# Altium schematic symbol library ROM.SchLib: 3 symbols
Pins are listed as number, name and electrical type; pins without a type are passive.

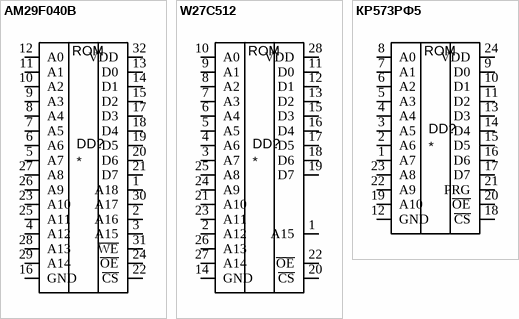
[diagram p0: symbols AM29F040B to КР573РФ5]

## AM29F040B
designator DD?
footprint DIP254P1524X482-32
pins: 1 A18, 2 A16, 3 A15, 4 A12, 5 A7, 6 A6, 7 A5, 8 A4, 9 A3, 10 A2, 11 A1, 12 A0, 13 D0, 14 D1, 15 D2, 16 GND, 17 D3, 18 D4, 19 D5, 20 D6, 21 D7, 22 ~{CS}, 23 A10, 24 ~{OE}, 25 A11, 26 A9, 27 A8, 28 A13, 29 A14, 30 A17, 31 ~{WE}, 32 VDD
text: ROM

## W27C512
designator DD?
footprint DIP28insocket
pins: 1 A15, 2 A12, 3 A7, 4 A6, 5 A5, 6 A4, 7 A3, 8 A2, 9 A1, 10 A0, 11 D0, 12 D1, 13 D2, 14 GND, 15 D3, 16 D4, 17 D5, 18 D6, 19 D7, 20 ~{CS}, 21 A10, 22 ~{OE}, 23 A11, 24 A9, 25 A8, 26 A13, 27 A14, 28 VDD
text: ROM

## КР573РФ5
designator DD?
footprint DIP24
pins: 1 A7, 2 A6, 3 A5, 4 A4, 5 A3, 6 A2, 7 A1, 8 A0, 9 D0, 10 D1, 11 D2, 12 GND, 13 D3, 14 D4, 15 D5, 16 D6, 17 D7, 18 ~{CS}, 19 A10, 20 ~{OE}, 21 PRG, 22 A9, 23 A8, 24 VDD
text: ROM